# EAGLE library part MCUBOARD (library GoldFishFront)
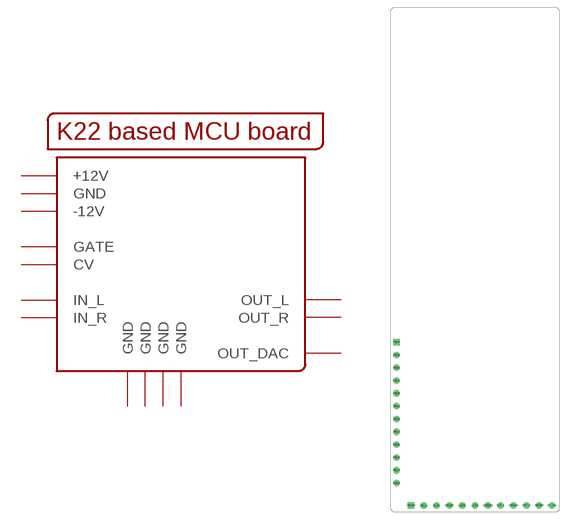
[diagram p0: symbol with the pads of MCUBASEBOARD; footprint MCUBASEBOARD]

Designator prefix -

## MCUBOARD  [MCUBASEBOARD]
+12V  +12V
-12V  -12V
GND  GND
GND@1  GND
GND@2  GND
GND@4  GND
GND@5  GND
IN_L  IN_L
OUT_DAC  OUT_DAC
OUT_L  OUT_L
OUT_R  OUT_R
P$13  CV
P$14  GATE
R_IN  IN_R

## Footprint MCUBASEBOARD (pad centres in mm)
drill 0.8: +12V 14.29,1.27; -12V 16.83,1.27; GND 19.37,1.27; GND@2 11.75,1.27; GND@4 24.45,1.27; GND@5 29.53,1.27; IN_L 6.67,1.27; OUT_DAC 32.07,1.27; OUT_L 21.91,1.27; OUT_R 26.99,1.27; P$13 1.27,5.72; P$14 1.27,8.26; P$15 1.27,10.8; P$16 1.27,13.34; P$17 1.27,15.88; P$18 1.27,18.42; P$19 1.27,20.96; P$20 1.27,23.5; P$21 1.27,26.04; P$22 1.27,28.58; P$23 1.27,31.12; R_IN 9.21,1.27
drill 0.8 square: GND@1 4.13,1.27; P$24 1.27,33.66